# Altium schematic symbol library Diodes-SMF5.0CA.SchLib: 1 symbol
Pins are listed as number, name and electrical type; pins without a type are passive.

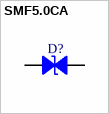
[diagram p0: symbol SMF5.0CA]

## SMF5.0CA
designator D?
pins: 1 A, 2 K